# Altium footprint library semicon.PCBLIB: 115 footprints (part 7 of 8)
Each footprint in its own frame and in the unit in brackets; x right, y up, seen from the top. Pads: shape width x height; smd on the part's side, far side on the other; paste and mask are expansions set on the pad; w line width, h text height; cw(c..) or ccw(c..) is an arc to the next point about the centre after c.
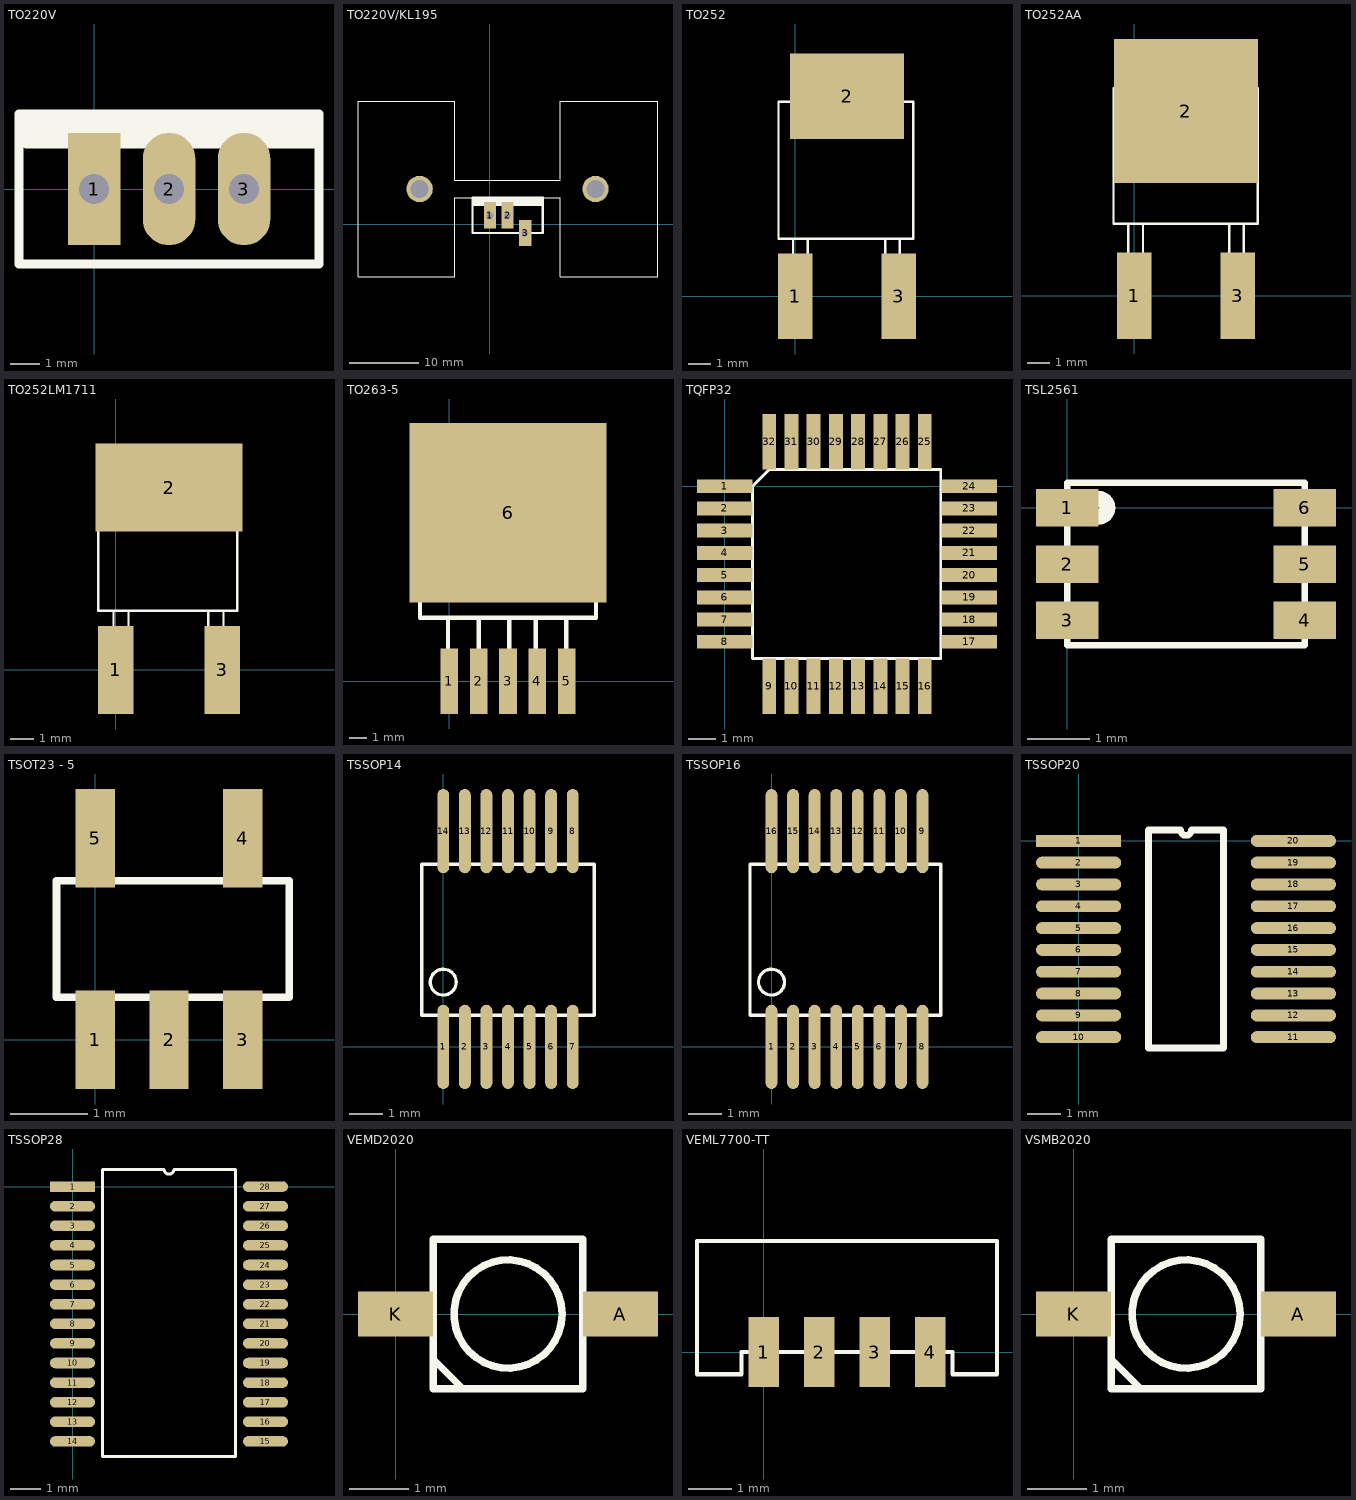
[diagram p6: the footprints below, top view; thin cyan lines are the x and y axes]

## TO220V [mil]
pads (3):
  rect 70x150 hole 40: 1(0,0)
  oval 70x150 hole 40: 2(100,0) 3(200,0)
Top Overlay:
  lines w12: -100,70 300,70 ; -100,80 299,80 ; -100,90 300,90 ; -90,60 300,60 ; -100,-100 -100,100 300,100 300,-100 -100,-100

## TO220V/KL195 [mil]
pads (5):
  rect 70x150 hole 40: 1(0,50) 2(100,50) 3(200,-50)
  round 150 hole 104: ""(-400,200) ""(600,200)
Top Overlay:
  lines w5: -205,700 -750,700 -750,-300 -200,-300 -200,150 400,150 400,-300 955,-300 955,700 400,700 400,255 ; -200,700 -200,250 400,250
  lines w12: -100,120 300,120 ; -100,130 300,130 ; -100,140 300,140 ; -90,110 300,110 ; -100,-50 300,-50 300,150 -100,150 -100,-50

## TO252 [mm]
pads (3):
  rect 1.524x3.81 smd: 1(0,0) 3(4.6,0)
  rect 5.08x3.81 smd: 2(2.3,8.9)
Top Overlay:
  lines w0.1: -0.1,2.55 -0.1,0.55 0.55,0.55 0.55,2.55 ; -0.1,8.65 -0.1,9.65 4.653,9.65 4.653,8.65 ; 4,2.55 4,0.55 4.65,0.55 4.65,2.55 ; -0.75,2.55 5.25,2.55 5.25,8.65 -0.75,8.65 -0.75,2.55

## TO252AA [mil]
pads (3):
  rect 60x150 smd: 1(0,0) 3(180,0)
  rect 250x250 smd: 2(90,320)
Top Overlay:
  lines w3.94: -10,125 -10,25 15.59,25 15.59,125 ; -10,360 -10,395 189.41,395 189.41,360 ; 165,125 165,25 190,25 190,125 ; -35.59,125 214.41,125 214.41,360 -35.59,360 -35.59,125

## TO252LM1711 [mil]
pads (3):
  rect 60x150 smd: 1(0,0) 3(181.1,0)
  rect 250x150 smd: 2(90.55,310)
Top Overlay:
  lines w3.94: -3.94,100.39 -3.94,21.65 21.65,21.65 21.65,100.39 ; -3.94,340.55 -3.94,379.92 183.2,379.92 183.2,340.55 ; 157.48,100.39 157.48,21.65 183.07,21.65 183.07,100.39 ; -29.53,100.39 206.69,100.39 206.69,340.55 -29.53,340.55 -29.53,100.39

## TO263-5 [mil]
pads (6):
  rect 40x150 smd: 1(0,0) 2(67,0) 3(134,0) 4(201,0) 5(268,0)
  rect 450x410 smd: 6(134,385)
Top Overlay:
  lines w10: -3,45 -3,145 ; 67,45 67,145 ; 137,45 137,135 137,145 ; 197,45 197,145 ; 267,45 267,145 ; -67,465 335,465 ; -67,465 -67,445 -67,145 335,145 335,465 ; -67,465 -70,465 -40,495 305,495 335,465

## TQFP32 [mm]
pads (32):
  rect 2x0.5 smd: 1(0,0) 2(0,-0.8) 3(0,-1.6) 4(0,-2.4) 5(0,-3.2) 6(0,-4) 7(0,-4.8) 8(0,-5.6) 17(8.8,-5.6) 18(8.8,-4.8) 19(8.8,-4) 20(8.8,-3.2) 21(8.8,-2.4) 22(8.8,-1.6) 23(8.8,-0.8) 24(8.8,0)
  rect 0.5x2 smd: 9(1.6,-7.2) 10(2.4,-7.2) 11(3.2,-7.2) 12(4,-7.2) 13(4.8,-7.2) 14(5.6,-7.2) 15(6.4,-7.2) 16(7.2,-7.2) 25(7.2,1.6) 26(6.4,1.6) 27(5.6,1.6) 28(4.8,1.6) 29(4,1.6) 30(3.2,1.6) 31(2.4,1.6) 32(1.6,1.6)
Top Overlay:
  lines w0.1: 1,-6.2 7.775,-6.2 7.775,0.6 1.625,0.6 1.6,0.6 1,0 1,-6.2

## TSL2561 [mm]
pads (6):
  rect 1x0.6 smd: 1(0,0) 2(0,-0.9) 3(0,-1.8) 4(3.8,-1.8) 5(3.8,-0.9) 6(3.8,0)
Top Overlay:
  circle w0.254: c0.5,0 r0.141
  lines w0.1: 0,-2.2 3.8,-2.2 3.8,0.4 0,0.4 0,-2.2

## TSOT23 - 5 [mil]
pads (5):
  rect 20x50 smd: 1(0,0) 2(37.4,0) 3(74.8,0) 4(74.8,102.36) 5(0,102.36)
Top Overlay:
  lines w3.94: -19.68,21.65 98.43,21.65 98.43,80.71 -19.68,80.71 -19.68,21.65

## TSSOP14 [mm]
pads (14):
  oval 0.356x2.54 smd: 1(0,0) 2(0.65,0) 3(1.3,0) 4(1.95,0) 5(2.6,0) 6(3.25,0) 7(3.9,0) 8(3.9,6.5) 9(3.25,6.5) 10(2.6,6.5) 11(1.95,6.5) 12(1.3,6.5) 13(0.65,6.5) 14(0,6.5)
Top Overlay:
  circle w0.1: c0,1.95 r0.39
  lines w0.1: -0.65,0.95 4.55,0.95 4.55,5.5 -0.65,5.5 -0.65,0.95

## TSSOP16 [mm]
pads (16):
  oval 0.356x2.54 smd: 1(0,0) 2(0.65,0) 3(1.3,0) 4(1.95,0) 5(2.6,0) 6(3.25,0) 7(3.9,0) 8(4.55,0) 9(4.55,6.5) 10(3.9,6.5) 11(3.25,6.5) 12(2.6,6.5) 13(1.95,6.5) 14(1.3,6.5) 15(0.65,6.5) 16(0,6.5)
Top Overlay:
  circle w0.1: c0,1.95 r0.39
  lines w0.1: -0.65,0.95 5.1,0.95 5.1,5.5 -0.65,5.5 -0.65,0.95

## TSSOP20 [mm]
pads (20):
  rect 2.54x0.356 smd: 1(0,0)
  oval 2.54x0.356 smd: 2(0,-0.65) 3(0,-1.3) 4(0,-1.95) 5(0,-2.6) 6(0,-3.25) 7(0,-3.9) 8(0,-4.55) 9(0,-5.2) 10(0,-5.85) 11(6.4,-5.85) 12(6.4,-5.2) 13(6.4,-4.55) 14(6.4,-3.9) 15(6.4,-3.25) 16(6.4,-2.6) 17(6.4,-1.95) 18(6.4,-1.3) 19(6.4,-0.65) 20(6.4,0)
Top Overlay:
  lines w0.2: 2.085,-6.175 4.315,-6.175 4.315,0.325 3.362,0.325 cw(c3.2,0.325) 3.037,0.325 2.085,0.325 2.085,-6.175

## TSSOP28 [mm]
pads (28):
  rect 1.5x0.35 smd: 1(0,0)
  oval 1.5x0.35 smd: 2(0,-0.65) 3(0,-1.3) 4(0,-1.95) 5(0,-2.6) 6(0,-3.25) 7(0,-3.9) 8(0,-4.55) 9(0,-5.2) 10(0,-5.85) 11(0,-6.5) 12(0,-7.15) 13(0,-7.8) 14(0,-8.45) 15(6.4,-8.45) 16(6.4,-7.8) 17(6.4,-7.15) 18(6.4,-6.5) 19(6.4,-5.85) 20(6.4,-5.2) 21(6.4,-4.55) 22(6.4,-3.9) 23(6.4,-3.25) 24(6.4,-2.6) 25(6.4,-1.95) 26(6.4,-1.3) 27(6.4,-0.65) 28(6.4,0)
Top Overlay:
  lines w0.1: 1,-8.95 1,0.575 2.788,0.575 3.038,0.575 ccw(c3.2,0.575) 3.363,0.575 3.612,0.575 5.4,0.575 5.4,-8.95 1,-8.95

## VEMD2020 [mil]
pads (2):
  rect 50x30 smd: A(150,0) K(0,0)
Top Overlay:
  circle w5: c75,0 r36.06
  lines w5: 25,-30 45,-50 ; 25,-50 25,50 125,50 125,-50 25,-50

## VEML7700-TT [mm]
pads (4):
  rect 0.7x1.6 smd: 1(0,0) 2(1.27,0) 3(2.54,0) 4(3.81,0)
Top Overlay:
  lines w0.1: -1.524,-0.508 -1.524,2.54 5.334,2.54 5.334,-0.508 4.318,-0.508 4.318,0 -0.508,0 -0.508,-0.508 -1.524,-0.508

## VSMB2020 [mil]
pads (2):
  rect 50x30 smd: A(150,0) K(0,0)
Top Overlay:
  circle w5: c75,0 r36.06
  lines w5: 25,-30 45,-50 ; 25,-50 125,-50 125,50 25,50 25,-50